# Altium footprint library AltiumilePcbCizimi_Library.PcbLib: 20 footprints (part 1 of 2)
Each footprint in its own frame and in the unit in brackets; x right, y up, seen from the top. Pads: shape width x height; smd on the part's side, far side on the other; paste and mask are expansions set on the pad; w line width, h text height; cw(c..) or ccw(c..) is an arc to the next point about the centre after c.
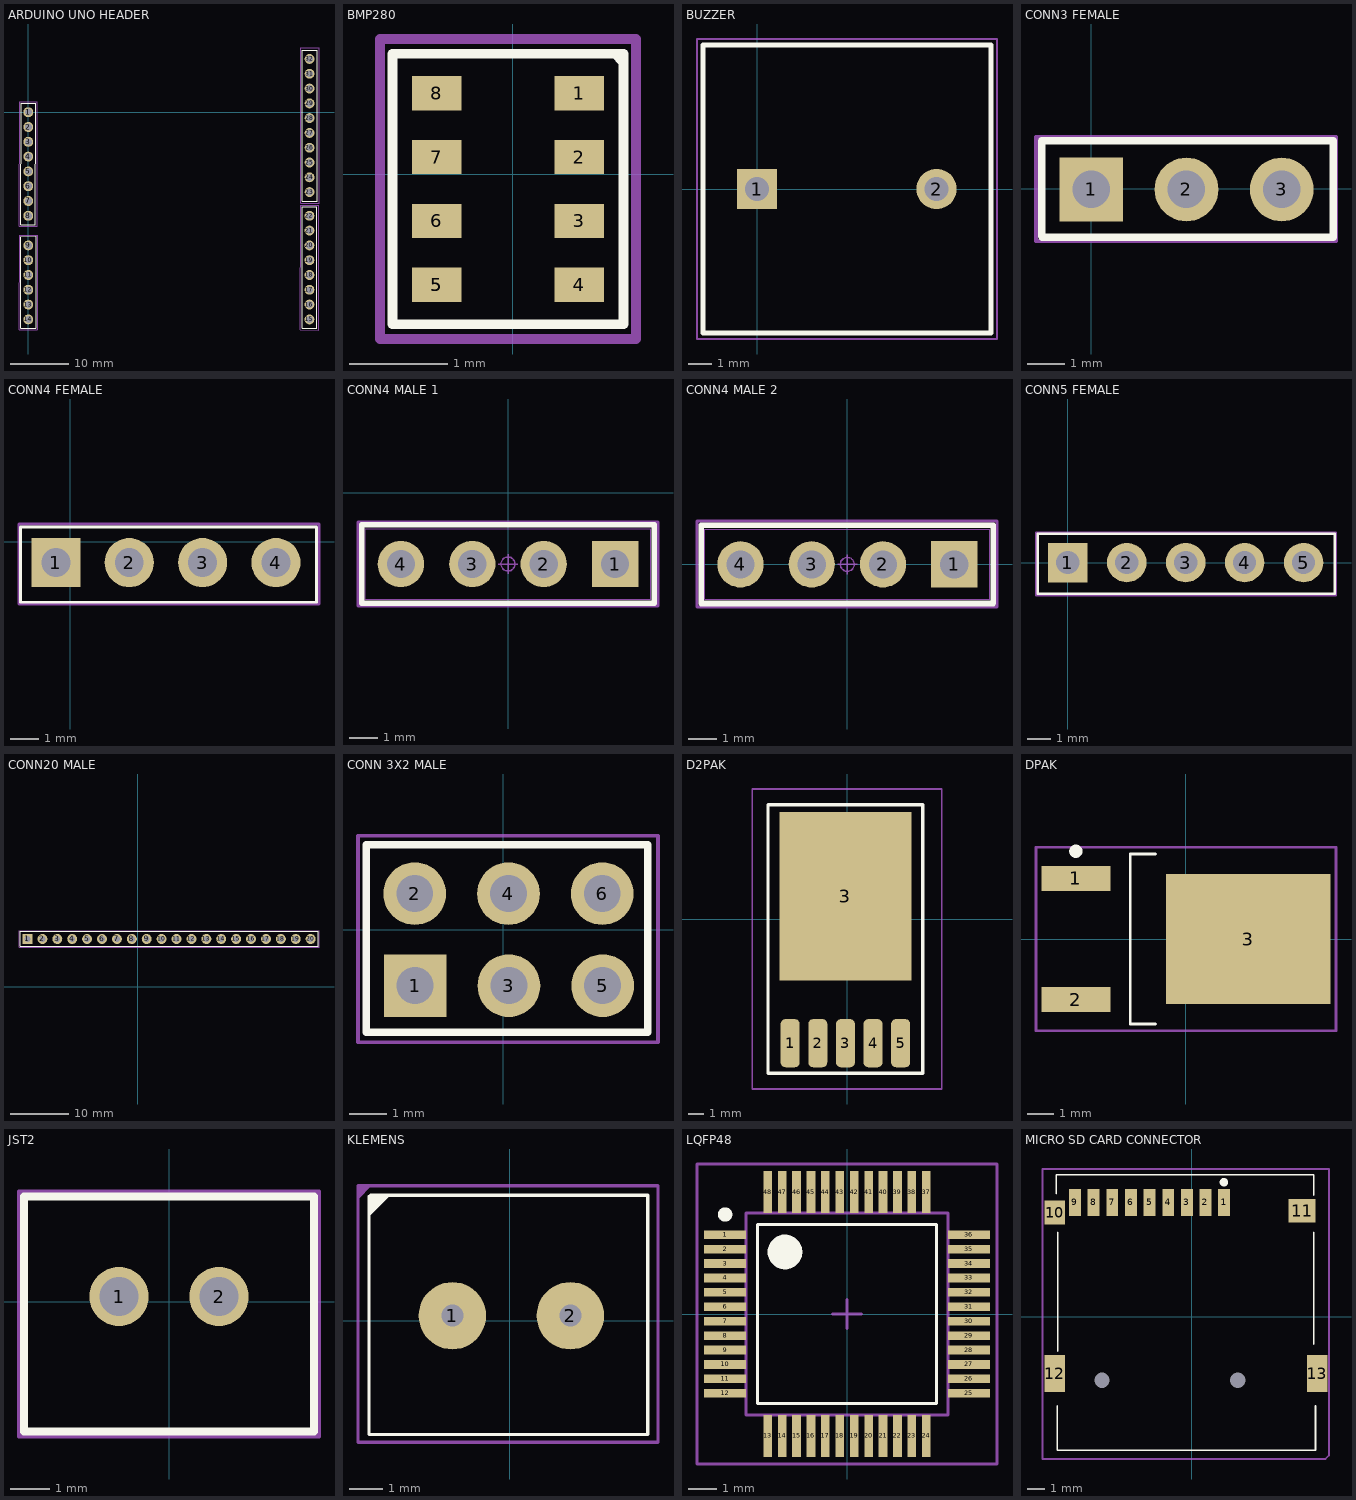
[diagram p0: the footprints below, top view; thin cyan lines are the x and y axes]

## ARDUINO UNO HEADER [mm]
pads (32):
  round 1.7 hole 1.2: 1(0,0) 2(0,-2.54) 3(0,-5.08) 4(0,-7.62) 5(0,-10.16) 6(0,-12.7) 7(0,-15.24) 8(0,-17.78) 9(0,-22.86) 10(0,-25.4) 11(0,-27.94) 12(0,-30.48) 13(0,-33.02) 14(0,-35.56) 15(48.26,-35.56) 16(48.26,-33.02) 17(48.26,-30.48) 18(48.26,-27.94) 19(48.26,-25.4) 20(48.26,-22.86) 21(48.26,-20.32) 22(48.26,-17.78) 23(48.285,-13.717) 24(48.285,-11.177) 25(48.285,-8.637) 26(48.285,-6.097) 27(48.285,-3.557) 28(48.285,-1.017) 29(48.285,1.523) 30(48.285,4.063) 31(48.285,6.603) 32(48.285,9.143)
Top Overlay:
  lines w0.2: -1.263,-21.352 -1.308,-37.099 1.295,-37.121 1.25,-21.33 -1.261,-21.344 ; -1.236,1.516 -1.254,-19.304 1.231,-19.304 1.255,1.528 -1.228,1.549 ; 47.007,-16.258 47.005,-37.066 49.496,-37.071 49.504,-16.258 47.016,-16.264 ; 47,-15.276 49.577,-15.243 49.577,10.665 47.066,10.665 47,-15.276
Mechanical 15:
  lines w0.1: 46.778,-15.955 46.714,-37.344 49.785,-37.387 49.742,-15.976 46.821,-15.976 ; -1.596,-37.372 1.541,-37.372 1.494,-21.092 -1.486,-21.089 -1.596,-37.372 ; -1.557,-19.61 1.56,-19.596 1.56,1.757 1.557,1.759 1.557,1.814 -1.491,1.814 -1.557,-19.61 ; 46.76,-15.613 49.902,-15.613 49.902,11.025 46.76,11.025 46.76,-15.613
3D body "6-Pin Header - Female - 2.54mm.step": height 5, standoff -3, extent -1.25,-37.08 1.25,-21.34
3D body "8-Pin Header - Female - 2.54mm.step": height 5, standoff -3, extent -1.25,-19.3 1.25,1.52
3D body "8-Pin Header - Female - 2.54mm.step": height 5, standoff -3, extent 47.01,-37.08 49.51,-16.26
3D body "10-Pin Header - Female - 2.54mm.step": height 5, standoff -3, extent 47.066,-15.256 49.566,10.644

## BMP280 [mm]
pads (9):
  rect 0.5x0.35 smd: 1(0.675,0.825) 2(0.675,0.175) 3(0.675,-0.475) 4(0.675,-1.125) 5(-0.775,-1.125) 5(-0.775,-1.125) 6(-0.775,-0.475) 7(-0.775,0.175) 8(-0.775,0.825)
Top Overlay:
  region: 1.123,1.157 1.123,1.223 1.125,1.225
  region: 1.125,1.225 0.995,1.225 0.984,1.214 1.107,1.09 1.122,1.09
  lines w0.1: -1.225,-1.525 -0.637,-1.525 0.537,-1.525 1.125,-1.525 1.125,1.225 -1.225,1.225 -1.225,-1.525
Mechanical 15:
  lines w0.1: -1.35,-1.675 -1.35,1.375 1.25,1.375 1.25,-1.675 -1.35,-1.675
3D body "BMP280.step": height 0.95, standoff -0.01, extent -1.05,-1.4 0.95,1.1

## BUZZER [mm]
pads (2):
  rect 1.7x1.7 hole 1: 1(0,0)
  round 1.7 hole 1: 2(7.6,0)
Top Overlay:
  lines w0.2: -2.286,-6.096 9.906,-6.096 9.906,6.096 -2.286,6.096 -2.286,-6.096
Mechanical 15:
  lines w0.1: -2.54,-6.35 10.16,-6.35 10.16,6.35 -2.54,6.35 -2.54,-6.35
3D body "User Library-Buzzer CEM-1205C.STEP": height 9, standoff -4, extent -2.211,-5.953 9.789,6.047

## CONN3 FEMALE [mm] "3 PIN 2.54MM"
pads (3):
  rect 1.7x1.7 hole 1 mask+0.05: 1(0,-0.025)
  round 1.7 hole 1 mask+0.05: 2(2.54,-0.025) 3(5.08,-0.025)
Top Overlay:
  lines w0.2: -1.325,-1.275 -1.3,-1.3 6.45,-1.3 6.45,1.275 -1.325,1.275 -1.325,-1.275
Mechanical 3:
  lines w0.1: -1.473,-1.397 6.528,-1.397 6.528,1.372 -1.473,1.372 -1.473,-1.397
3D body "User Library-ZL262-3SG.step": height 9.1, standoff -2.45, extent -1.26,-1.275 6.36,1.225

## CONN4 FEMALE [mm] "4 PIN 2.54MM"
pads (4):
  rect 1.7x1.7 hole 1 mask+0.05: 1(-0.5,-0.725)
  round 1.7 hole 1 mask+0.05: 2(2.04,-0.725) 3(4.58,-0.725) 4(7.12,-0.725)
Top Overlay:
  lines w0.1: -1.725,-2.1 8.525,-2.1 8.525,0.5 -1.725,0.5 -1.725,-2.1
Mechanical 3:
  lines w0.1: -1.778,-2.159 -1.778,0.61 8.611,0.61 8.611,-2.159 -1.778,-2.159
3D body "User Library-ZL262-4SG.step": height 9.1, standoff -2.45, extent -1.68,-2.05 8.48,0.45

## CONN4 MALE 1 [mm] "4 PIN 2.54MM"
pads (4):
  rect 1.65x1.65 hole 1 mask+0: 1(3.81,-2.54)
  round 1.65 hole 1 mask+0: 2(1.27,-2.54) 3(-1.27,-2.54) 4(-3.81,-2.54)
Top Overlay:
  lines w0.2: -5.207,-3.937 5.207,-3.937 5.207,-1.143 -5.207,-1.143 -5.207,-3.937
Mechanical 13:
  lines w0.025: -5.08,-3.79 5.08,-3.79 5.08,-1.29 -5.08,-1.29 -5.08,-3.79
Mechanical 15:
  circle w0.05: c0,-2.54 r0.25
  lines w0.05: -0.35,-2.54 0.35,-2.54 ; 0,-2.89 0,-2.19
  lines w0.1: -5.334,-4.039 5.334,-4.039 5.334,-1.041 -5.334,-1.041 -5.334,-4.039
3D body "4-Pin Header - Male - 2.54mm.step": height 8.89, standoff -3.05, extent -5.126,-3.828 5.034,-1.288

## CONN4 MALE 2 [mm] "4 PIN 2.54MM"
pads (4):
  rect 1.65x1.65 hole 1 mask+0: 1(3.81,0)
  round 1.65 hole 1 mask+0: 2(1.27,0) 3(-1.27,0) 4(-3.81,0)
Top Overlay:
  lines w0.2: -5.207,-1.397 -5.207,1.397 5.207,1.397 5.207,-1.397 -5.207,-1.397
Mechanical 13:
  lines w0.025: -5.08,-1.25 -5.08,1.25 5.08,1.25 5.08,-1.25 -5.08,-1.25
Mechanical 15:
  circle w0.05: c0,0 r0.25
  lines w0.05: -0.35,0 0.35,0 ; 0,-0.35 0,0.35
  lines w0.1: -5.359,-1.524 -5.359,1.549 5.334,1.549 5.334,-1.524 -5.359,-1.524
3D body "4Pin.step": height 4.4, standoff -2.9, extent -5.08,-1.338 5.08,7.112

## CONN5 FEMALE [mm] "5 PIN 2.54MM"
pads (5):
  rect 1.7x1.7 hole 1 mask+0.05: 1(0,0)
  round 1.7 hole 1 mask+0.05: 2(2.54,0) 3(5.08,0) 4(7.62,0) 5(10.16,0)
Top Overlay:
  lines w0.1: -1.295,-1.346 -1.295,1.245 11.506,1.245 11.506,-1.346 -1.295,-1.346
Mechanical 3:
  lines w0.1: -1.372,-1.422 -1.372,1.295 11.557,1.295 11.557,-1.422 -1.372,-1.422
3D body "User Library-ZL262-5SG (1).step": height 9.1, standoff -2.45, extent -1.25,-1.3 11.45,1.2

## CONN20 MALE [mm] "20 PIN 2.54MM"
pads (20):
  rect 1.7x1.7 hole 1 mask+0.05: 1(-18.796,8.128)
  round 1.7 hole 1 mask+0.05: 2(-16.256,8.128) 3(-13.716,8.128) 4(-11.176,8.128) 5(-8.636,8.128) 6(-6.096,8.128) 7(-3.556,8.128) 8(-1.016,8.128) 9(1.524,8.128) 10(4.064,8.128) 11(6.604,8.128) 12(9.144,8.128) 13(11.684,8.128) 14(14.224,8.128) 15(16.764,8.128) 16(19.304,8.128) 17(21.844,8.128) 18(24.384,8.128) 19(26.924,8.128) 20(29.464,8.128)
Top Overlay:
  lines w0.2: -20.066,6.858 -20.066,9.398 30.734,9.398 30.734,6.858 -20.066,6.858
Mechanical 15:
  lines w0.1: -20.244,6.706 -20.244,9.525 30.886,9.525 30.886,6.706 -20.244,6.706
3D body "20-Pin Header - Male - 2.54mm.step": height 8.89, standoff -3.05, extent -20.045,6.899 30.755,9.439

## CONN 3X2 MALE [mm] "3X2 PIN 2.54MM"
pads (6):
  rect 1.7x1.7 hole 1 mask+0.05: 1(-2.388,-1.518)
  round 1.7 hole 1 mask+0.05: 2(-2.4,0.975) 3(0.152,-1.518) 4(0.14,0.975) 5(2.692,-1.518) 6(2.68,0.975)
Top Overlay:
  lines w0.2: -3.71,-2.78 3.91,-2.78 3.91,2.3 -3.71,2.3 -3.71,-2.78
Mechanical 15:
  lines w0.1: -3.937,-3.048 -3.937,2.54 4.191,2.54 4.191,-3.048 -3.937,-3.048
3D body "User Library-HEADER, 2X3, 2_54MM X 2_54MM PITCH, VERT, TH.STEP": height 8.38, standoff -3.81, extent -3.71,-2.78 3.91,2.3

## D2PAK [mm]
pads (6):
  rrect50% 1.2x3.05 smd: 1(-3.6,-7.85) 2(-1.85,-7.85) 3(-0.1,-7.85) 4(1.65,-7.85) 5(3.4,-7.85)
  rect 8.38x10.66 smd mask+0.102: 3(-0.1,1.45)
Top Overlay:
  lines w0.2: -5,-9.75 -5,7.25 4.8,7.25 4.8,-3.75 4.8,-9.75 -5,-9.75
Mechanical 15:
  lines w0.1: -1.25,0 1,0 ; 0,-1.25 0,1 ; -6,-10.75 6,-10.75 6,-0.75 6,8.25 -6,8.25 -6,3.5 -6,-6 -6,-10.75
3D body "TO263-5-1.stp": height 4.22, standoff 0, extent -5.011,-9.011 4.811,5.591

## DPAK [mm] "D-PAK, 3-Pads, Body 6,20x6,56mm (max), IPC Medium Density"
height 2.4
pads (3):
  rect 2.6x0.95 smd mask+0.05: 1(-4.15,2.28) 2(-4.15,-2.28)
  rect 6.2x4.9 smd mask+0.05: 3(2.35,0)
Top Overlay:
  circle w0.25: c-4.15,3.305 r0.125
  lines w0.1: -1.15,-3.2 -2.1,-3.2 -2.1,3.2 -1.15,3.2
Mechanical 15:
  lines w0.1: -0.5,0 0.5,0 ; 0,-0.5 0,0.5 ; -5.65,-3.45 5.65,-3.45 5.65,3.45 -5.65,3.45 -5.65,-3.45
3D body "DPAK.step": height 3.4, standoff 0, extent -4.275,-3.2 5.45,3.2

## JST2 [mm] "2 PIN 2.54MM"
pads (2):
  round 1.5 hole 1 mask+0.102: 1(-1.27,0.127) 2(1.27,0.127)
Top Overlay:
  lines w0.2: -3.683,-3.302 -3.683,2.667 3.683,2.667 3.683,-3.302 -3.683,-3.302
Mechanical 15:
  lines w0.1: -3.81,-3.429 -3.81,2.794 3.81,2.794 3.81,-3.429 -3.81,-3.429
3D body "JST - XH - Thru (V) - 2Pin - 2.54mm.stp": height 7.21, standoff -3, extent -3.607,-3.226 3.607,2.616

## KLEMENS [mm] "2 PIN"
pads (2):
  round 2 hole 0.65: 1(-1.7,0.15) 2(1.8,0.15)
Top Overlay:
  region: -3.594,3.671 -4.167,3.099 -4.167,3.633 -4.033,3.767 -3.654,3.767
  lines w0.1: -4.175,-3.375 4.1,-3.375 4.1,3.725 -4.125,3.725 -4.175,3.675 -4.175,-3.375
Mechanical 15:
  region: -4.1,4 -4.5,3.6 -4.5,4
  lines w0.1: -4.5,-3.6 -4.5,4 4.4,4 4.4,-3.6 -4.5,-3.6
3D body "terminal_blocks_a-tb350-te02.stp": height 8.9, standoff -3.29, extent -4,-3.25 3.994,3.75

## LQFP48 [mm] "TSQFP, 48-Leads, Body 7,00x7,00mm, Pitch 0,50mm, IPC Medium Density"
height 1.6
pads (48):
  rect 1.45x0.3 smd mask+0.05: 1(-4.225,2.75) 2(-4.225,2.25) 3(-4.225,1.75) 4(-4.225,1.25) 5(-4.225,0.75) 6(-4.225,0.25) 7(-4.225,-0.25) 8(-4.225,-0.75) 9(-4.225,-1.25) 10(-4.225,-1.75) 11(-4.225,-2.25) 12(-4.225,-2.75) 25(4.225,-2.75) 26(4.225,-2.25) 27(4.225,-1.75) 28(4.225,-1.25) 29(4.225,-0.75) 30(4.225,-0.25) 31(4.225,0.25) 32(4.225,0.75) 33(4.225,1.25) 34(4.225,1.75) 35(4.225,2.25) 36(4.225,2.75)
  rect 0.3x1.45 smd mask+0.05: 13(-2.75,-4.225) 14(-2.25,-4.225) 15(-1.75,-4.225) 16(-1.25,-4.225) 17(-0.75,-4.225) 18(-0.25,-4.225) 19(0.25,-4.225) 20(0.75,-4.225) 21(1.25,-4.225) 22(1.75,-4.225) 23(2.25,-4.225) 24(2.75,-4.225) 37(2.75,4.225) 38(2.25,4.225) 39(1.75,4.225) 40(1.25,4.225) 41(0.75,4.225) 42(0.25,4.225) 43(-0.25,4.225) 44(-0.75,4.225) 45(-1.25,4.225) 46(-1.75,4.225) 47(-2.25,4.225) 48(-2.75,4.225)
Top Overlay:
  circle w0.6: c-2.15,2.15 r0.3
  circle w0.25: c-4.225,3.45 r0.125
  lines w0.1: -3.1,-3.1 3.1,-3.1 3.1,3.1 -3.1,3.1 -3.1,-3.1
Mechanical 13:
  circle w0.1: c-2.127,2.172 r0.5
  lines w0.1: -3.5,-3.5 3.5,-3.5 3.5,3.5 -3.5,3.5 -3.5,-3.5
Mechanical 15:
  lines w0.1: -0.5,0 0.5,0 ; 0,-0.5 0,0.5 ; -5.2,-5.2 5.2,-5.2 5.2,5.2 -5.2,5.2 -5.2,-5.2
3D body "LQFP48.step": height 1.6, standoff 0, extent -4.5,-4.5 4.5,4.5

## MICRO SD CARD CONNECTOR [mm]
pads (15):
  rect 0.7x1.6 smd paste+0 mask+0: 1(1.918,6.735) 2(0.818,6.735) 3(-0.282,6.735) 4(-1.382,6.735) 5(-2.482,6.735) 6(-3.582,6.735) 7(-4.682,6.735) 8(-5.782,6.735) 9(-6.882,6.735)
  rect 1.2x1.4 smd paste+0 mask+0: 10(-8.082,6.135)
  rect 1.6x1.4 smd paste+0 mask+0: 11(6.518,6.235)
  rect 1.2x2.2 smd paste+0 mask+0: 12(-8.082,-3.365) 13(7.418,-3.365)
  round 0 hole 0.9 unplated paste-1000 mask+0: ""(-5.282,-3.765) ""(2.718,-3.765)
Top Overlay:
  circle w0.25: c1.905,7.925 r0.125
  lines w0.1: -7.991,7.259 -7.991,8.359 7.209,8.359 7.209,7.159 ; -7.923,-5.265 -7.923,-7.888 7.309,-7.888 7.309,-5.265 ; -7.891,-2.041 -7.891,4.959 ; 7.209,-1.641 7.209,4.959
Mechanical 15:
  lines w0.1: -8.8,-8.4 -8.8,8.7 8.1,8.7 8.1,-8.2 7.9,-8.4 -8.8,-8.4
3D body "User Library-MEM2055-00-190-01-A_revG.step": height 1.85, standoff -0.6, extent -8.333,-7.76 7.667,7.49